# Altium schematic symbol library OBC_boardV1.SchLib: 97 symbols (part 1 of 2)
Pins are listed as number, name and electrical type; pins without a type are passive.

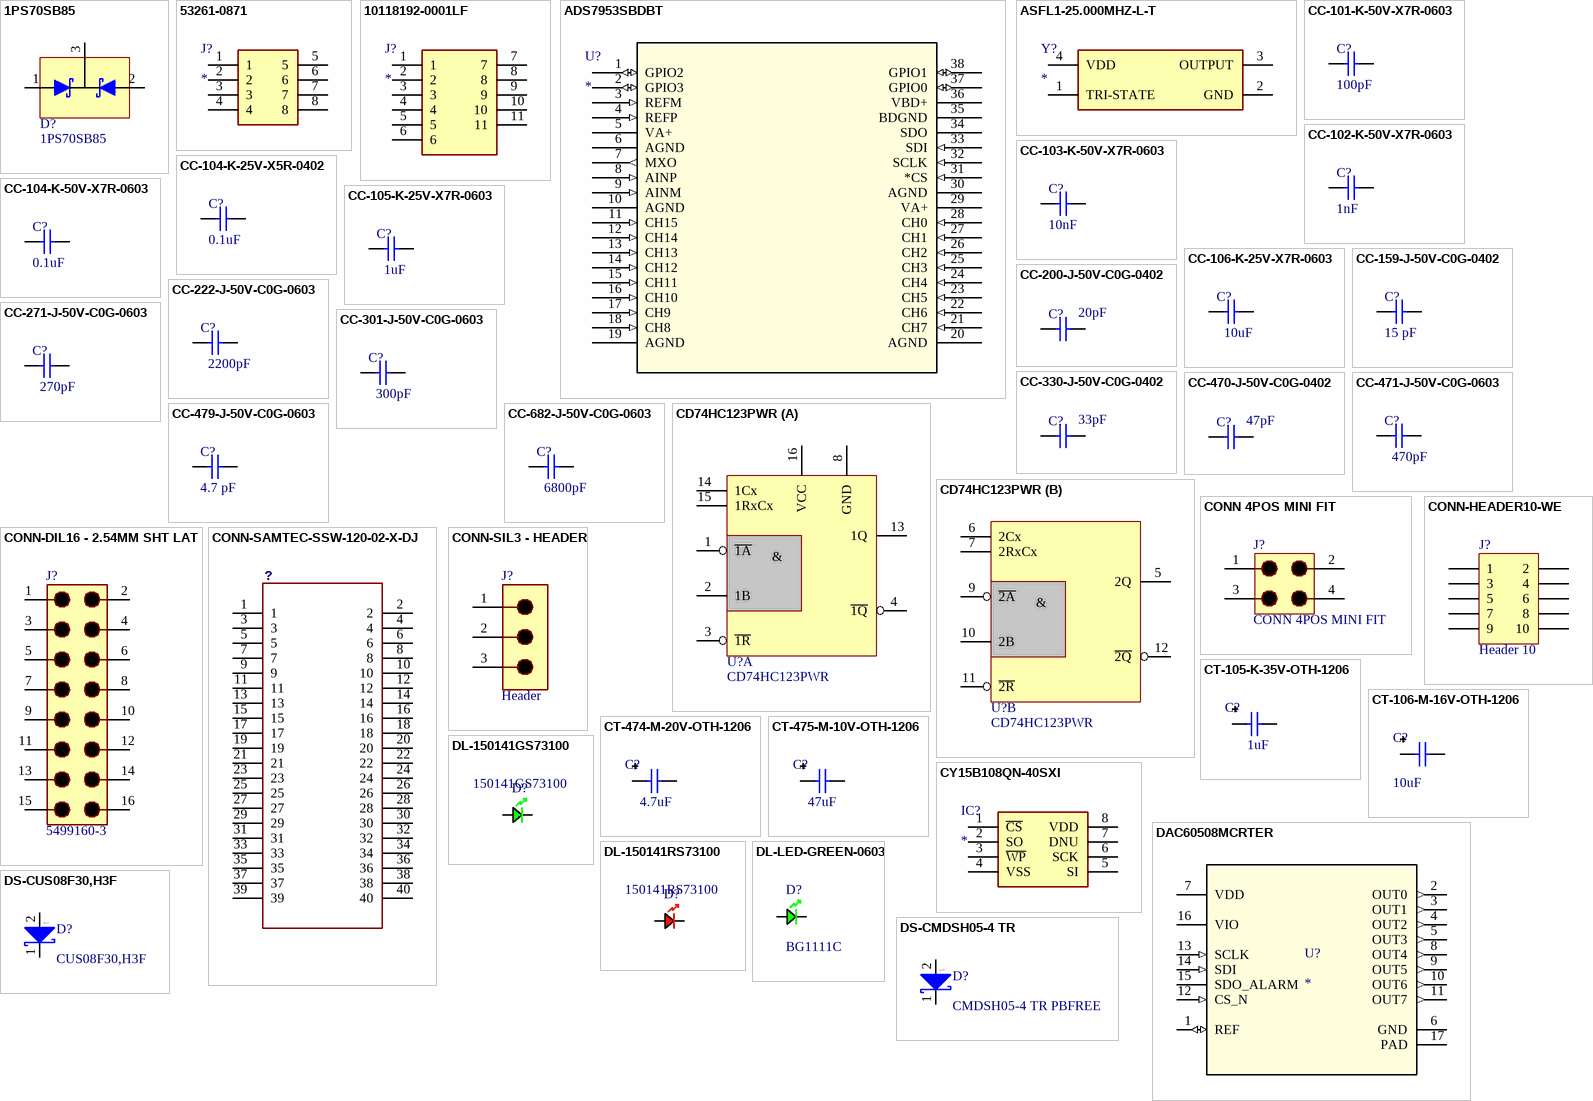
[diagram p0: symbols 1PS70SB85 to DS-CUS08F30,H3F]

## 1PS70SB85
designator D?
DIODE ARRAY SCHOTTKY 15V SOT323; Supplier 1: Digi-Key; Supplier 2: Mouser; Supplier Part Number 1: 1727-5441-1-ND; Supplier Part Number 2: 771-1PS70SB85115
footprint 1PS70SB85, SOT-23 (DIODE ARRAY SCHOTTKY 15V SOT323)
pins: 1 A, 2 A, 3 C

## 53261-0871
designator J?
Connector; Manufacturer_Name: Molex; Manufacturer_Part_Number: 53261-0871; Description: Molex PICOBLADE Series; Datasheet Link: https://componentsearchengine.com//53261-0871.pdf; Mouser2 Part Number: 538-53261-0871; Mouser2 Price/Stock: https://www.mouser.com/Search/Refine.aspx?Keyword=538-53261-0871
footprint 53261-0871
pins: 1, 2, 3, 4, 5, 6, 7, 8

## 10118192-0001LF
designator J?
Connector; Manufacturer_Name: Amphenol; Manufacturer_Part_Number: 10118192-0001LF; Datasheet Link: https://www.mouser.tw/datasheet/2/18/10118192-1361887.pdf; Height: 2.8mm; Mouser Part Number: 649-10118192-0001LF; Mouser Price/Stock: https://www.mouser.co.uk/ProductDetail/Amphenol-FCI/10118192-0001LF?qs=Ywefl8B65e5bHFoQtIudZg%3D%3D; Arrow Part Number: 10118192-0001LF; Arrow Price/Stock: https://www.arrow.com/en/products/10118192-0001lf/amphenol-fci?region=nac
footprint 101181920001LF
pins: 1, 2, 3, 4, 5, 6, 7, 8, 9, 10, 11

## ADS7953SBDBT
designator U?
12 bit, 1 MSPS, 16 ch, single ended, micro power, sr i/f, SAR ADC; Manufacturer: Texas Instruments; GENERIC_PART_NUMBER: ADS7953; INDUSTRY_STD_PKG_TYPE: TSSOP; FAMILY_NAME: PRECISION ADC (<=10MSPS); PIN_COUNT: 38; PACKAGE_DESIGNATOR: DBT; Datasheet_URL: http://www.ti.com/lit/gpn/ADS7953; Copyright: Copyright (C) 2021 Accelerated Designs. All rights reserved; RefDes: RefDes; Type: DEV
footprint DBT38
pins: 1 GPIO2 (io), 2 GPIO3 (io), 3 REFM (in), 4 REFP (in), 5 VA+ (power), 6 AGND (power), 7 MXO (out), 8 AINP (in), 9 AINM (in), 10 AGND (power), 11 CH15 (in), 12 CH14 (in), 13 CH13 (in), 14 CH12 (in), 15 CH11 (in), 16 CH10 (in), 17 CH9 (in), 18 CH8 (in), 19 AGND (power), 20 AGND (power), 21 CH7 (in), 22 CH6 (in), 23 CH5 (in), 24 CH4 (in), 25 CH3 (in), 26 CH2 (in), 27 CH1 (in), 28 CH0 (in), 29 VA+ (power), 30 AGND (power), 31 *CS (in), 32 SCLK (in), 33 SDI (in), 34 SDO (hiz), 35 BDGND (power), 36 VBD+ (power), 37 GPIO0 (io), 38 GPIO1 (io)

## ASFL1-25.000MHZ-L-T
designator Y?
Crystal or Oscillator; Manufacturer_Name: ABRACON; Manufacturer_Part_Number: ASFL1-25.000MHZ-L-T; Datasheet Link: https://componentsearchengine.com/Datasheets/1/ASFL1-25.000MHZ-L-T.pdf; Height: 1.3mm; Mouser Part Number: 815-ASFL1-25-L-T; Mouser Price/Stock: https://www.mouser.co.uk/ProductDetail/ABRACON/ASFL1-25000MHZ-L-T?qs=jv7ULIbIBgOiRkeuuil%252BKg%3D%3D; Arrow Part Number: ASFL1-25.000MHZ-L-T; Arrow Price/Stock: https://www.arrow.com/en/products/asfl1-25.000mhz-l-t/abracon?region=nac
footprint ASFL125000MHZLT
pins: 1 TRI-STATE, 2 GND, 3 OUTPUT, 4 VDD

## CC-101-K-50V-X7R-0603
designator C?, comment 100pF
CAP CER 100PF 50V X7R 0603; Manufacturer: KEMET; Manufacturer Part #: C0603C101M5RAC7867; Checked By: *; Created By: *; Distributor: Digikey; Distributor Part #: 399-14478-1-ND; History: *; Notes: *; Part Description: CAP CER 100PF 50V X7R 0603; Population: *; ROHS: Yes; SignalCraft Part #: *; Alternate Distributor Part #: *; Alternate Manufacturer: *; Alternate Manufacturer Part #: *; Value: 100pF
footprint 0603
pins: 1, 2

## CC-102-K-50V-X7R-0603
designator C?, comment value 1nF  (hidden comment: 10nF)
CAP CER 1000PF 50V X7R 0603; Manufacturer: KEMET; Manufacturer Part #: C0603C102J5RACTU; Checked By: *; ComponentLink1Description: Datasheet; ComponentLink1URL: https://www.yageo.com/upload/media/product/productsearch/datasheet/mlcc/UPY-GPHC_X7R_6.3V-to-50V_18.pdf; ComponentLink2Description: Manufacture Website; ComponentLink2URL: https://www.yageo.com/en/Home; Created By: *; Distributor: Digikey; Distributor Part #: 399-1083-1-ND; History: *; Notes: *; Part Description: CAP CER 1000PF 50V X7R 0603; Population: *; ROHS: Yes; SignalCraft Part #: *; Alternate Distributor Part #: *; Alternate Manufacturer: *; Alternate Manufacturer Part #: *
footprint 0603
pins: 1, 2

## CC-103-K-50V-X7R-0603
designator C?, comment 10nF
CAP CER 10000PF 50V X7R 0603; Manufacturer: KEMET; Manufacturer Part #: C0603C103K5RAC3190; Checked By: *; Created By: *; Distributor: Digikey; Distributor Part #: 399-C0603C103K5RAC3190CT-ND; History: *; Notes: *; Part Description: CAP CER 10000PF 50V X7R 0603; Population: *; ROHS: Yes; SignalCraft Part #: *; Alternate Distributor Part #: *; Alternate Manufacturer: *; Alternate Manufacturer Part #: *; Value: 10nF
footprint 0603
pins: 1, 2

## CC-104-K-25V-X5R-0402
designator C?, comment 0.1uF
CAP CER 0.1UF 25V X5R 0402; Manufacturer: Taiyo Yuden; Manufacturer Part #: TMK105BJ104KV-F; SignalCraft Part #: CC-104-K-25V-X5R-0402; Checked By: *; ComponentLink1description: Datasheet; ComponentLink1URL: https://ds.yuden.co.jp/TYCOMPAS/ut/detail?pn=TMK105BJ104KV-F%20%20&u=M; ComponentLink2description: Manufacturer Website; Created By: *; Distributor: Digikey; Distributor Part #: 587-1456-1-ND; History: *; Notes: *; Part Description: CAP CER 0.1UF 25V X5R 0402; Population: *; ROHS: Yes; ComponentLink2URL: https://www.yuden.co.jp/or/; Value: 0.1uF
footprint 0402 (Chip Resistor, 2-Leads, Body 1,00x0,50mm, IPC Medium Density)
pins: 1, 2

## CC-104-K-50V-X7R-0603
designator C?, comment 0.1uF
CAP CER 0.1UF 50V X7R 0603; Manufacturer: Yageo; Manufacturer Part #: CC0603KRX7R9BB104; SignalCraft Part #: CC-104-K-50V-X7R-0603; Checked By: *; ComponentLink1Description: Datasheet; ComponentLink1URL: https://www.yageo.com/upload/media/product/productsearch/datasheet/mlcc/UPY-GPHC_X7R_6.3V-to-50V_18.pdf; ComponentLink2Description: Manufacture Website; ComponentLink2URL: https://www.yageo.com/en/Home; Created By: *; Distributor: Digikey; Distributor Part #: 311-1344-1-ND; History: *; Notes: *; Part Description: CAP CER 0.1UF 50V X7R 0603; Population: *; ROHS: Yes; Alternate Distributor Part #: *; Alternate Manufacturer: *; Alternate Manufacturer Part #: *; Value: 0.1uF
footprint 0603
pins: 1, 2

## CC-105-K-25V-X7R-0603
designator C?, comment 1uF
CAP CER 1UF 25V X7R 0603; Manufacturer: Yageo; Manufacturer Part #: CC0603KRX7R8BB105; SignalCraft Part #: CC-105-K-25V-X7R-0603; Checked By: *; ComponentLink1Description: Datasheet; ComponentLink1URL: https://www.yageo.com/upload/media/product/productsearch/datasheet/mlcc/UPY-GPHC_X7R_6.3V-to-50V_18.pdf; ComponentLink2Description: Manufacture Website; ComponentLink2URL: https://www.yageo.com/en/Home; Created By: *; Distributor: Digikey; Distributor Part #: 311-1802-1-ND; History: *; Notes: *; Part Description: CAP CER 1UF 25V X7R 0603; Population: *; ROHS: Yes; Alternate Distributor Part #: *; Alternate Manufacturer: *; Alternate Manufacturer Part #: *; Value: 1uF
footprint 0603
pins: 1, 2

## CC-106-K-25V-X7R-0603
designator C?, comment value 10uF  (hidden comment: 1uF)
CAP CER 10UF 25V X7R 0603; Manufacturer: Murata Electronics; Manufacturer Part #: ZRB18AR61E106ME01L; Part Description: CAP CER 10UF 25V X5R 0603; SignalCraft Part #: CC-105-K-25V-X7R-0603; Checked By: *; Created By: *; Distributor: Digikey; Distributor Part #: 490-10991-1-ND; History: *; Notes: *; Population: *; ROHS: Yes; Alternate Distributor Part #: *; Alternate Manufacturer: *; Alternate Manufacturer Part #: *
footprint 0603
pins: 1, 2

## CC-159-J-50V-C0G-0402
designator C?, comment 15 pF
15 pF ±1% 50V Ceramic Capacitor C0G, NP0 0402 (1005 Metric); Manufacturer: YAGEO; Manufacturer Part #: CC0402FRNPO9BN150; Checked By: *; ComponentLink1Description: Datasheet; ComponentLink1URL: *; ComponentLink2Description: Manufacture Website; ComponentLink2URL: *; Created By: *; Distributor: Digikey; Distributor Part #: 311-1642-1-ND; History: *; Notes: *; Part Description: 15 pF ±1% 50V Ceramic Capacitor C0G, NP0 0402 (1005 Metric); Population: *; ROHS: *; SignalCraft Part #: *; Alternate Distributor Part #: *; Alternate Manufacturer: *; Alternate Manufacturer Part #: *; Value: 15 pF
footprint 0603
pins: 1, 2

## CC-200-J-50V-C0G-0402
designator C?, comment 20pF
CAP CER 20PF 50V C0G/NP0 0402; Manufacturer: KEMET; Manufacturer Part #: C0402C200J5GACTU; SignalCraft Part #: CC-200-J-50V-C0G-0402; Checked By: *; ComponentLink1description: Datasheet; ComponentLink1URL: https://content.kemet.com/datasheets/KEM_C1003_C0G_SMD.pdf; ComponentLink2description: Manufacturer Website; Created By: *; Distributor: Digikey; Distributor Part #: 399-7773-1-ND; History: *; Notes: *; Part Description: CAP CER 20PF 50V C0G/NP0 0402; Population: *; ROHS: Yes; ComponentLink2URL: https://www.kemet.com/en/us.html; Value: 20pF
footprint 0402 (Chip Resistor, 2-Leads, Body 1,00x0,50mm, IPC Medium Density)
pins: 1, 2

## CC-222-J-50V-C0G-0603
designator C?, comment 2200pF
CAP CER 2200PF 50V C0G/NPO 0603; Manufacturer: KEMET; Manufacturer Part #: C0603C222J5RACAUTO; Part Description: CAP CER 2200PF 50V X7R 0603; Checked By: *; ComponentLink1Description: Datasheet; ComponentLink1URL: *; ComponentLink2Description: Manufacture Website; ComponentLink2URL: *; Created By: *; Distributor: Digikey; Distributor Part #: 399-C0603C222J5RACAUTOCT-ND; History: *; Notes: *; Population: *; ROHS: *; SignalCraft Part #: *; Alternate Distributor Part #: *; Alternate Manufacturer: *; Alternate Manufacturer Part #: *; Value: 2200pF
footprint 0603
pins: 1, 2

## CC-271-J-50V-C0G-0603
designator C?, comment 270pF
CAP CER 270PF 50V C0G/NPO 0603; Manufacturer: KEMET; Manufacturer Part #: C0603C271K5RACTU; Part Description: CAP CER 270PF 50V X7R 0603; Checked By: *; Created By: *; Distributor: Digikey; Distributor Part #: 399-1072-1-ND; History: *; Notes: *; Population: *; ROHS: Yes; SignalCraft Part #: *; Alternate Distributor Part #: *; Alternate Manufacturer: *; Alternate Manufacturer Part #: *; Value: 270pF
footprint 0603
pins: 1, 2

## CC-301-J-50V-C0G-0603
designator C?, comment 300pF
CAP CER 300PF 50V C0G/NPO 0603; Manufacturer: KEMET; Manufacturer Part #: C0603C301J5GACTU; Part Description: CAP CER 300PF 50V C0G/NP0 0603; Checked By: *; Created By: *; Distributor: Digikey; Distributor Part #: 399-9058-1-ND; History: *; Notes: *; Population: *; ROHS: Yes; SignalCraft Part #: *; Alternate Distributor Part #: *; Alternate Manufacturer: *; Alternate Manufacturer Part #: *; Value: 300pF
footprint 0603
pins: 1, 2

## CC-330-J-50V-C0G-0402
designator C?, comment 33pF
CAP CER 33PF 50V C0G/NP0 0402; Manufacturer: KEMET; Manufacturer Part #: C0402C330J5GACTU; Part Description: 33 pF ±5% 50V Ceramic Capacitor C0G, NP0 0402 (1005 Metric); Checked By: *; ComponentLink1description: Datasheet; ComponentLink1URL: https://content.kemet.com/datasheets/KEM_C1003_C0G_SMD.pdf; ComponentLink2description: Manufacturer Website; Created By: *; Distributor: Digikey; Distributor Part #: 399-1017-1-ND; History: *; Notes: *; Population: *; ROHS: Yes; ComponentLink2URL: https://www.kemet.com/en/us.html; Value: 33pF
footprint 0402 (Chip Resistor, 2-Leads, Body 1,00x0,50mm, IPC Medium Density)
pins: 1, 2

## CC-470-J-50V-C0G-0402
designator C?, comment 47pF
CAP CER 47PF 50V C0G/NP0 0402; Manufacturer: Murata Electronics; Manufacturer Part #: GCM1555C1H470JA16J; SignalCraft Part #: CC-470-J-50V-C0G-0402; Checked By: *; ComponentLink1description: Datasheet; ComponentLink1URL: https://search.murata.co.jp/Ceramy/image/img/A01X/G101/ENG/GCM1555C1H470JA16-01.pdf; ComponentLink2description: Manufacturer Website; Created By: *; Distributor: Digikey; Distributor Part #: 490-17752-1-ND; History: *; Notes: *; Part Description: CAP CER 47PF 50V C0G/NP0 0402; Population: *; ROHS: Yes; ComponentLink2URL: https://www.murata.com/en-us; Value: 47pF
footprint 0402 (Chip Resistor, 2-Leads, Body 1,00x0,50mm, IPC Medium Density)
pins: 1, 2

## CC-471-J-50V-C0G-0603
designator C?, comment 470pF
CAP CER 470PF 50V C0G/NPO 0603; Manufacturer: Yageo; Manufacturer Part #: CC0603JRNPO9BN471; SignalCraft Part #: CC-471-J-50V-C0G-0603; Checked By: *; ComponentLink1Description: Datasheet; ComponentLink1URL: https://www.yageo.com/upload/media/product/productsearch/datasheet/mlcc/UPY-GPHC_X7R_6.3V-to-50V_18.pdf; ComponentLink2Description: Manufacture Website; ComponentLink2URL: https://www.yageo.com/en/Home; Created By: *; Distributor: Digikey; Distributor Part #: 311-1520-1-ND; History: *; Notes: *; Part Description: CAP CER 470PF 50V C0G/NPO 0603; Population: *; ROHS: Yes; Alternate Distributor Part #: *; Alternate Manufacturer: *; Alternate Manufacturer Part #: *; Value: 470pF
footprint 0603
pins: 1, 2

## CC-479-J-50V-C0G-0603
designator C?, comment 4.7 pF
4.7 pF ±0.25pF 50V Ceramic Capacitor C0G, NP0 0603 (1608 Metric); Manufacturer: KEMET; Manufacturer Part #: C0603C479C5GACTU; Checked By: *; ComponentLink1Description: Datasheet; ComponentLink1URL: *; ComponentLink2Description: Manufacture Website; ComponentLink2URL: *; Created By: *; Distributor: Digikey; Distributor Part #: 399-7937-1-ND; History: *; Notes: *; Part Description: 4.7 pF ±0.25pF 50V Ceramic Capacitor C0G, NP0 0603 (1608 Metric); Population: *; ROHS: *; SignalCraft Part #: *; Alternate Distributor Part #: *; Alternate Manufacturer: *; Alternate Manufacturer Part #: *; Value: 4.7 pF
footprint 0603
pins: 1, 2

## CC-682-J-50V-C0G-0603
designator C?, comment 6800pF
CAP CER 6800PF 50V C0G/NPO 0603; Manufacturer: KEMET; Manufacturer Part #: C0603C682K5RAC7411; Part Description: CAP CER 6800PF 50V X7R 0603; Checked By: *; Created By: *; Distributor: Digikey; Distributor Part #: 399-C0603C682K5RAC7411CT-ND; History: *; Notes: *; Population: *; ROHS: *; SignalCraft Part #: *; Alternate Distributor Part #: *; Alternate Manufacturer: *; Alternate Manufacturer Part #: *; Value: 6800pF
footprint 0603
pins: 1, 2

## CD74HC123PWR
designator U?
IC DUAL RETRIG MULTIVIB 16-TSSOP; Supplier 1: Mouser; Supplier 2: Farnell; Supplier 3: Digi-Key; Supplier Part Number 1: 595-CD74HC123PWR; Supplier Part Number 2: 1287430; Supplier Part Number 3: 296-12780-1-ND
footprint CD74HC123PWR (IC DUAL RETRIG MULTIVIB 16-TSSOP)
part A pins: 1 ~{1A}, 2 1B, 3 ~{1R}, 4 ~{1Q}, 8 GND, 13 1Q, 14 1Cx, 15 1RxCx, 16 VCC
part B pins: 5 2Q, 6 2Cx, 7 2RxCx, 9 ~{2A}, 10 2B, 11 ~{2R}, 12 ~{2Q}
part A text: &
part B text: &

## CONN 4POS MINI FIT
designator J?
CONN HEADER 4POS 4.2MM VERT TIN; Supplier 1: Digi-Key; Supplier Part Number 1: WM3801-ND
footprint CONN 4POS MINI FIT
pins: 1, 2, 3, 4

## CONN-DIL16 - 2.54MM SHT LAT
designator J?, comment 5499160-3
CONN HEADER VERT 16POS .100 GOLD  SHT LAT; Supplier 1: Digi-Key; Supplier Part Number 1: AHE16B-ND
footprint CONN-DIL16 - 2.54MM SHT LAT
pins: 1, 2, 3, 4, 5, 6, 7, 8, 9, 10, 11, 12, 13, 14, 15, 16

## CONN-HEADER10-WE
designator J?, comment Header 10
WR-BHD 2.54mm Male Box Header; Manufacturer: Wurth Elektronik; partNo: 61201021621; ComponentLink1 Description: Manufacturer; ComponentLink2 Description: Datasheet; NoPins: 10; Created Date: March 2016; ComponentLink1URL: http://www.we-online.com; ComponentLink2URL: http://katalog.we-online.de/em/datasheet/6120xx21621.pdf; Created by: Baojun Chen
footprint CONN-HEADER 10-61201021621 (Connecteur fil-à-carte, Vertical, 2.54 mm, 10 Contact(s),WE)
pins: 1, 2, 3, 4, 5, 6, 7, 8, 9, 10

## CONN-SAMTEC-SSW-120-02-X-DJ
designator ?
40 Pin connector
footprint SAMTEC-SSW-120-02-X-D
pins: 1, 2, 3, 4, 5, 6, 7, 8, 9, 10, 11, 12, 13, 14, 15, 16, 17, 18, 19, 20, 21, 22, 23, 24, 25, 26, 27, 28, 29, 30, 31, 32, 33, 34, 35, 36, 37, 38, 39, 40

## CONN-SIL3 - HEADER
designator J?, comment Header
WIRE TO BOARD CONNECTOR, HEADER, 3 POSITION, 2.54MM; Supplier 1: Mouser; Supplier Part Number 1: 571-3-641213-3
footprint CONN-SIL3 - header
pins: 1, 2, 3

## CT-105-K-35V-OTH-1206
designator C?, comment 1uF
CAP TANT 1UF 10% 35V 1206; Alternate Manufacturer: KEMET; Alternate Manufacturer Part #: T494A105K035AT; Manufacturer Part #: T491A105K035AT; SignalCraft Part #: CT-105-K-35V-OTH-1206; Alternate Distributor Part #: 399-10219-1-ND; Checked By: *; ComponentLink1Description: Datasheet; ComponentLink1URL: https://content.kemet.com/datasheets/KEM_T2005_T491.pdf; ComponentLink2Description: Manufacturer Website; ComponentLink2URL: https://www.kemet.com/en/us.html; Created By: *; Distributor: Digikey; Distributor Part #: 399-8265-1-ND; History: *; Manufacturer: KEMET; Notes: *; Part Description: CAP TANT 1UF 10% 35V 1206; Population: *; ROHS: *; Value: 1uF
footprint CAP TANT 1206 (A)
pins: 1, 2

## CT-106-M-16V-OTH-1206
designator C?, comment 10uF
CAP TANT 10UF 16V 20% 1206; Manufacturer: AVX Corporation; Manufacturer Part #: TCJA106M016R0200; Part Description: CAP TANT POLY 10UF 16V 1206; SignalCraft Part #: CT-106-M-16V-OTH-1206; Alternate Distributor Part #: *; Alternate Manufacturer: *; Alternate Manufacturer Part #: *; Checked By: *; ComponentLink1Description: Datasheet; ComponentLink1URL: https://datasheets.avx.com/TCJ.pdf; ComponentLink2Description: Manufacturer Website; ComponentLink2URL: https://www.avx.com/; Created By: *; Distributor: Digikey; Distributor Part #: 478-3451-1-ND; History: *; Notes: *; Population: *; ROHS: *; Value: 10uF
footprint CAP TANT 1206 (A) TCJ (Cap Tant 2-Leads, EIA 1206, Metric 3216, Body 3.2x1.6mm)
pins: 1, 2

## CT-474-M-20V-OTH-1206
designator C?, comment 4.7uF
4.7 µF Molded Tantalum Capacitors 20 V 1206 (3216 Metric) 4Ohm; Manufacturer: AVX Corporation; Manufacturer Part #: TAJA475K020RNJ; Alternate Distributor Part #: *; Alternate Manufacturer: *; Alternate Manufacturer Part #: *; Checked By: *; ComponentLink1Description: Datasheet; ComponentLink1URL: *; ComponentLink2Description: Manufacturer Website; ComponentLink2URL: *; Created By: *; Distributor: Digikey; Distributor Part #: 478-1668-1-ND; History: *; Notes: *; Part Description: 4.7 µF Molded Tantalum Capacitors 20 V 1206 (3216 Metric) 4Ohm; Population: *; ROHS: *; SignalCraft Part #: *; Value: 4.7uF
footprint CAP TANT 1206 (A) TCJ (Cap Tant 2-Leads, EIA 1206, Metric 3216, Body 3.2x1.6mm)
pins: 1, 2

## CT-475-M-10V-OTH-1206
designator C?, comment 47uF
47 µF Molded Tantalum Capacitors 10 V 1206 (3216 Metric) 1.5Ohm; Manufacturer: AVX Corporation; Manufacturer Part #: TLNK476M010R1500; Alternate Distributor Part #: *; Alternate Manufacturer: *; Alternate Manufacturer Part #: *; Checked By: *; ComponentLink1Description: Datasheet; ComponentLink1URL: *; ComponentLink2Description: Manufacturer Website; ComponentLink2URL: *; Created By: *; Distributor: Digikey; Distributor Part #: 478-5632-1-ND; History: *; Notes: *; Part Description: 47 µF Molded Tantalum Capacitors 10 V 1206 (3216 Metric) 1.5Ohm; Population: *; ROHS: *; SignalCraft Part #: *; Value: 47uF
footprint CAP TANT 1206 (A) TCJ (Cap Tant 2-Leads, EIA 1206, Metric 3216, Body 3.2x1.6mm)
pins: 1, 2

## CY15B108QN-40SXI
designator IC?
Integrated Circuit; Manufacturer_Name: Cypress Semiconductor; Manufacturer_Part_Number: CY15B108QN-40SXI; Datasheet Link: https://www.cypress.com/file/444186/download; Height: 2.03mm; Mouser Part Number: 727-CY15B108QN-40SXI; Mouser Price/Stock: https://www.mouser.co.uk/ProductDetail/Cypress-Semiconductor/CY15B108QN-40SXI?qs=P1JMDcb91o4DSS%2FkAQM5uA%3D%3D; Arrow Part Number: CY15B108QN-40SXI; Arrow Price/Stock: https://www.arrow.com/en/products/cy15b108qn-40sxi/cypress-semiconductor
footprint SOIC127P800X203-8N
pins: 1 ~{CS}, 2 SO, 3 ~{WP}, 4 VSS, 5 SI, 6 SCK, 7 DNU, 8 VDD

## DAC60508MCRTER
designator U?
No Description Available; PartNumber: DAC60508MRTER; Manufacturer: Texas Instruments; RefDes: RefDes; Type: DEV; Value: Value; Copyright: Copyright (C) 2021 Accelerated Designs. All rights reserved
footprint RTE0016D
pins: 1 REF (io), 2 OUT0 (out), 3 OUT1 (out), 4 OUT2 (out), 5 OUT3 (out), 6 GND (power), 7 VDD (power), 8 OUT4 (out), 9 OUT5 (out), 10 OUT6 (out), 11 OUT7 (out), 12 CS_N (in), 13 SCLK (in), 14 SDI (in), 15 SDO_ALARM (hiz), 16 VIO (power), 17 PAD (power)

## DL-150141GS73100
designator D?, comment Manufacturer Part #: 150141GS73100  (hidden comment: .designator)
LED GREEN CLEAR 3528 SMD; SignalCraft Part #: DL-150141GS73100; Manufacturer: Würth Elektronik; ComponentLink1URL: https://www.we-online.de/katalog/datasheet/150141GS73100.pdf; ComponentLink2URL: https://www.we-online.com/web/en/wuerth_elektronik/start.php; Part Description: LED GREEN CLEAR 3528 SMD; Distributor: Digikey; Distributor Part #: 732-4997-1-ND; ComponentLink1Description: Datasheet - pdf; ComponentLink2Description: Manufacturer Website
footprint LED-150141GS73100
footprint LED-150141GS73100
pins: 1, 2

## DL-150141RS73100
designator D?, comment Manufacturer Part #: 150141RS73100  (hidden comment: .designator)
LED RED CLEAR 3528 SMD; SignalCraft Part #: DL-150141RS73100; Manufacturer: Würth Elektronik; ComponentLink1URL: https://www.we-online.de/katalog/datasheet/150141RS73100.pdf; ComponentLink2URL: https://www.we-online.com/web/en/wuerth_elektronik/start.php; Part Description: LED RED CLEAR 3528 SMD; Distributor: Digikey; Distributor Part #: 732-5000-1-ND; ComponentLink1Description: Datasheet - pdf; ComponentLink2Description: Manufacturer Website
footprint LED-150141GS73100
footprint LED-150141GS73100
pins: 1, 2

## DL-LED-GREEN-0603
designator D?, comment Notes: BG1111C  (hidden comment: .designator)
LED GREEN SMT 0603 2.1V; Part Description: DIODE LED GREEN 0603 SMD; Manufacturer: STANLEY ELECTRIC CO LTD; Manufacturer Part #: BG1111C-TR; ComponentLink1URL: http://www.stanley-components.com/en/search/pdf_download.cfm?pdf_file=1111c_e.pdf; ComponentLink2URL: http://www.stanley-components.com; Distributor: Digikey; Distributor Part #: 404-1005-1-ND; ComponentLink1Description: Datasheet - pdf; ComponentLink2Description: Manufacturer Website
footprint 0603 LED
pins: A, K

## DS-CMDSH05-4 TR
designator D?, comment Manufacturer Part #: CMDSH05-4 TR PBFREE  (hidden comment: .designator)
Schottky Diode Symbol; SignalCraft Part #: DS-CMDSH05-4 TR; Part Description: DIODE SCHOTTKY 40V 500MA SOD323; Manufacturer: Central Semiconductor; ComponentLink1URL: https://my.centralsemi.com/get_document.php?cmp=1&mergetype=pd&mergepath=pd&pdf_id=CMDSH05-4.PDF; ComponentLink2URL: http://centralsemi.com/; Distributor: Digi-Key; Distributor Part #: 1514-CMDSH05-4TRPBFREECT-ND; ROHS: Yes; ComponentLink1Description: Datasheet - pdf; ComponentLink2Description: Manufacturer Website
footprint SOD-323-Central-Semi
footprint SOD-323-Central-Semi (Schottky 30V Schottky)
pins: 1, 2
1 alternate drawing of the same symbol
text: ALT1

## DS-CUS08F30,H3F
designator D?, comment Manufacturer Part #: CUS08F30,H3F  (hidden comment: .designator)
DIODE SCHOTTKY 30V 800MA USC; SignalCraft Part #: DS-CUS08F30,H3F; Manufacturer: Toshiba Semiconductor and Storage; Value: CUS08F30,H3F; ComponentLink2URL: https://toshiba.semicon-storage.com/us/top.html; Part Description: DIODE SCHOTTKY 30V 800MA USC; Distributor: Digi-Key; Distributor Part #: CUS08F30H3FCT-ND; ROHS: Yes; ComponentLink1Description: Datasheet - pdf; ComponentLink2Description: Manufacturer Website
footprint SOD-323-Central-Semi (Schottky 30V Schottky)
pins: 1, 2
1 alternate drawing of the same symbol
text: ALT1

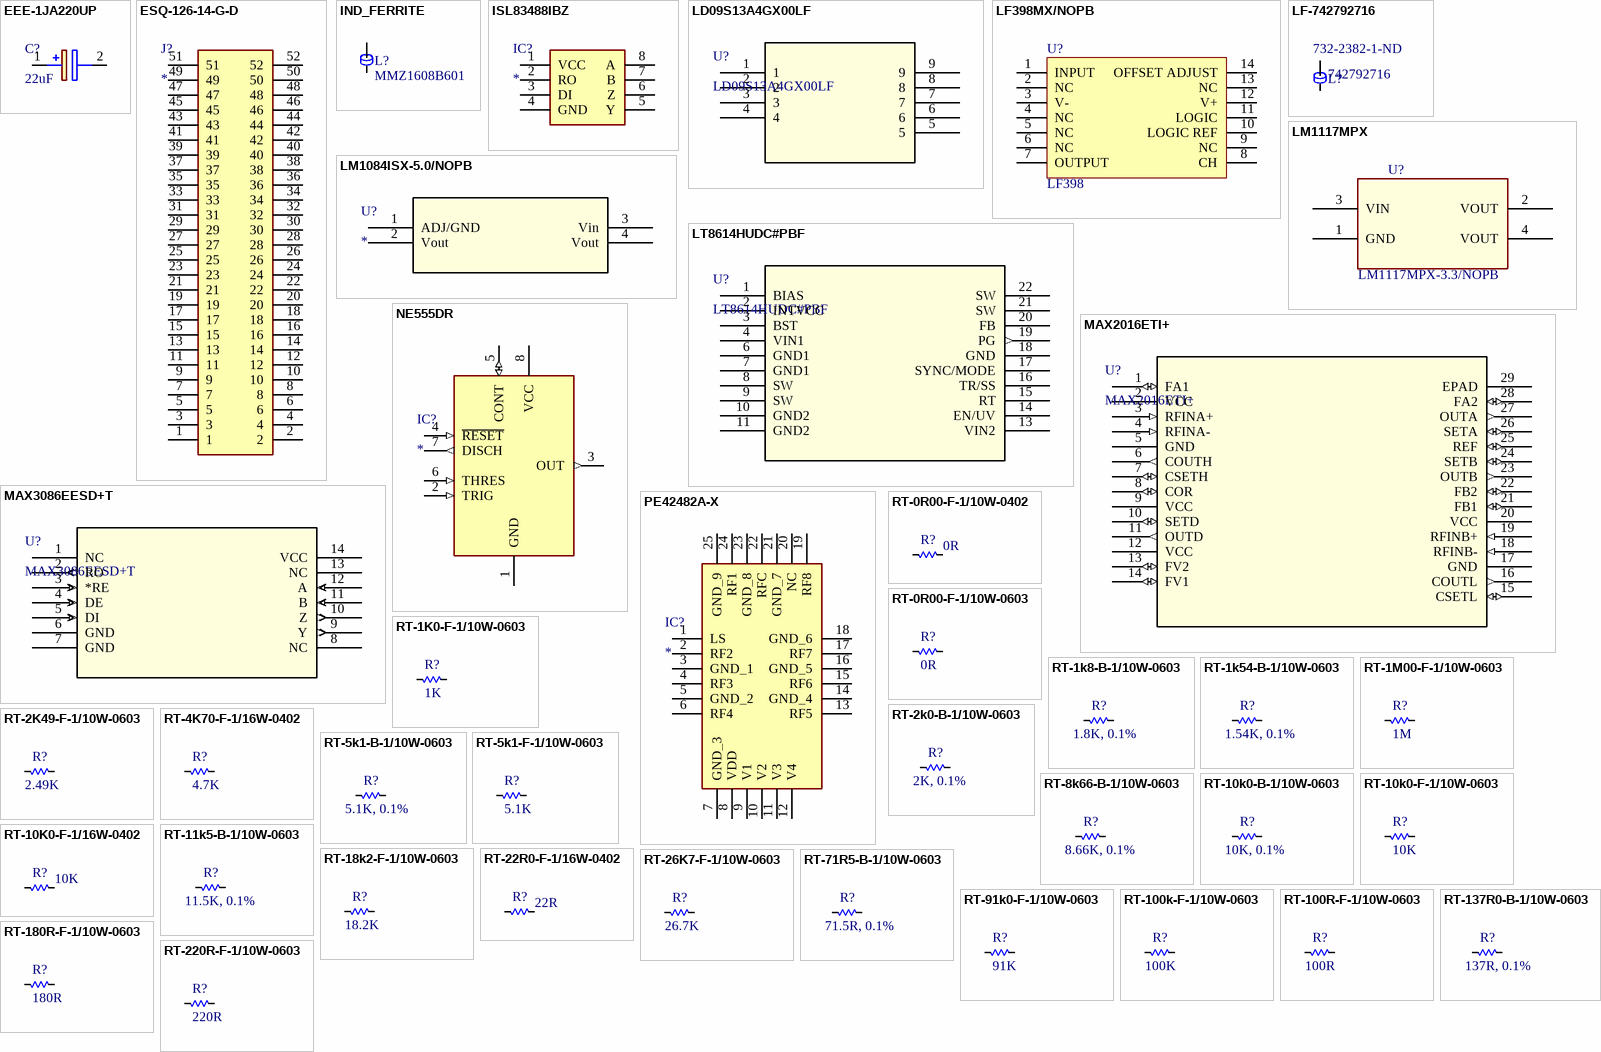
[diagram p1: symbols EEE-1JA220UP to RT-220R-F-1/10W-0603]

## EEE-1JA220UP
designator C?, comment 22uF
CAP ALUM 22UF 20% 63V SMD; Manufacturer_Name: Panasonic; Manufacturer_Part_Number: EEE-1JA220UP; Datasheet Link: https://ms.componentsearchengine.com/Datasheets/2/EEE-1JA220UP.pdf; Height: 6.5mm; Mouser Part Number: 667-EEE-1JA220UP; Mouser Price/Stock: https://www.mouser.co.uk/ProductDetail/Panasonic/EEE-1JA220UP?qs=wEytwf7f49Huz1y4HLAkeQ%3D%3D; Arrow Part Number: EEE-1JA220UP; Arrow Price/Stock: https://www.arrow.com/en/products/eee-1ja220up/panasonic
footprint CAPAE830X650N
pins: 1 +, 2 -

## ESQ-126-14-G-D
designator J?
Connector; Manufacturer_Name: SAMTEC; Manufacturer_Part_Number: ESQ-126-14-G-D; Datasheet Link: http://suddendocs.samtec.com/prints/esq-1xx-xx-x-x-xxx-xx-x-xx-mkt.pdf; Mouser Part Number: 200-ESQ12614GD; Mouser Price/Stock: https://www.mouser.com/Search/Refine.aspx?Keyword=200-ESQ12614GD; Arrow Part Number: ESQ-126-14-G-D; Arrow Price/Stock: https://www.arrow.com/en/products/esq-126-14-g-d/samtec?region=nac
footprint ESQ-126-Y-X-D
pins: 1, 2, 3, 4, 5, 6, 7, 8, 9, 10, 11, 12, 13, 14, 15, 16, 17, 18, 19, 20, 21, 22, 23, 24, 25, 26, 27, 28, 29, 30, 31, 32, 33, 34, 35, 36, 37, 38, 39, 40, 41, 42, 43, 44, 45, 46, 47, 48, 49, 50, 51, 52

## IND_FERRITE
designator L?, comment value MMZ1608B601  (hidden comment: .designator)
Ferrite Bead; SignalCraft Part #: LF-MMZ1608B601CTAH0; Part Description: FLTR FERRITE 500mA 600ohm 100MHz Material-B 0603; Manufacturer: TDK Corporation; History: 2014/12/18, prawlyk, created part ()<\n>2014/12/18, prawlyk, updated part; ComponentLink1URL: http://product.tdk.com/emc/beads/en/documents/beads_commercial_signal_mmz_en.pdf; ComponentLink2URL: http://www.component.tdk.com/; Distributor: Digi-Key; Distributor Part #: 445-2166-6-ND; ROHS: Yes; Created By: prawlyk; ComponentLink1Description: Datasheet - pdf; ComponentLink2Description: Manufacturer Website
footprint 0603
pins: 1, 2

## ISL83488IBZ
designator IC?
Integrated Circuit; Manufacturer_Name: Renesas Electronics; Manufacturer_Part_Number: ISL83488IBZ; Datasheet Link: https://www.renesas.com/en-us/www/doc/datasheet/isl83483-85-88-90-91.pdf; Height: 1.75mm; Mouser Part Number: 968-ISL83488IBZ; Mouser Price/Stock: https://www.mouser.co.uk/ProductDetail/Renesas-Intersil/ISL83488IBZ?qs=dAsayXGOMrtYlQoO5gpudg%3D%3D; Arrow Part Number: ISL83488IBZ; Arrow Price/Stock: https://www.arrow.com/en/products/isl83488ibz/intersil
footprint SOIC127P600X175-8N
pins: 1 VCC, 2 RO, 3 DI, 4 GND, 5 Y, 6 Z, 7 B, 8 A

## LD09S13A4GX00LF
designator U?
No Description Available; Built_By: EMA_Colton; Vendor: Amphenol; SourceLibrary: Add_to_database_2021-03-09; Datasheet: https://www.amphenol-icc.com/media/wysiwyg/files/drawing/10130913.pdf; Copyright: Copyright (C) 2018 Accelerated Designs. All rights reserved; Manufacturer_Part_Number: LD09S13A4GX00LF; RefDes: RefDes; Type: DEV
footprint LD09S13A4GX00LF_AMP
pins: 1, 2, 3, 4, 5, 6, 7, 8, 9

## LF398MX/NOPB
designator U?, comment LF398
IC OPAMP SAMPLE HOLD 14SOIC; Supplier 1: Digi-Key; Supplier 2: Mouser; Supplier 3: Farnell; Supplier Part Number 1: LF398MX/NOPBCT-ND; Supplier Part Number 2: 926-LF398MX/NOPB; Supplier Part Number 3: 2782760
footprint LF398MX (IC OPAMP SAMPLE HOLD 14SOIC)
pins: 1 INPUT, 2 NC, 3 V-, 4 NC, 5 NC, 6 NC, 7 OUTPUT, 8 CH, 9 NC, 10 LOGIC REF, 11 LOGIC, 12 V+, 13 NC, 14 OFFSET ADJUST

## LF-742792716
designator L?, comment Supplier Part Number 1: 732-2382-1-ND  (hidden comment: 742792716)
FERRITE BEAD 60 OHM 0402 1LN; Manufacturer: Würth Elektronik; SignalCraft Part #: LF-742792716; ComponentLink1URL: https://www.we-online.de/katalog/datasheet/742792716.pdf; ComponentLink2URL: https://www.we-online.com/web/en/wuerth_elektronik/start.php; Part Description: FERRITE BEAD 60 OHM 0402 1LN; Distributor: Digi-Key; Distributor Part #: 732-2382-1-ND; ROHS: Yes; ComponentLink1Description: Datasheet - pdf; ComponentLink2Description: Manufacturer Website; Alternate Distributor Part #: *; Alternate Manufacturer: *; Alternate Manufacturer Part #: *; Manufacturer Part #: 742792716; Supplier 1: Digi-Key; Value: 742792716
footprint 0402 (Chip Resistor, 2-Leads, Body 1,00x0,50mm, IPC Medium Density)
pins: 1, 2

## LM1084ISX-5.0/NOPB
designator U?
5V 1.5A LDO; PartNumber: LM1084IS-33; Comp: TypeLDO; Vendor: NationalSemiconductor; base_pn: LM1084; Symbol: NameLM1084IS-33; Library: ReferenceLM1084IS; Type: DEV; Version: 1; Pin: Count3; Copyright: Copyright (C) 2021 Accelerated Designs. All rights reserved; RefDes: RefDes
footprint TS3B
pins: 1 ADJ/GND, 2 Vout, 3 Vin, 4 Vout

## LM1117MPX
designator U?, comment Manufacturer Part #: LM1117MPX-3.3/NOPB  (hidden comment: .designator)
3V3 800mA LDO; SignalCraft Part #: U-LM1117MPX-3.3/NOPB; Part Description: IC REG LDO 800MA 3.3V SOT-223; Manufacturer: National Semiconductor; History: 2008/09/17, PCS, created part; ComponentLink1URL: http://cache.national.com/ds/LM/LM1117.pdf; ComponentLink2URL: www.national.com; Distributor: Digikey; Distributor Part #: LM1117MPX-3.3CT-ND; ROHS: Yes; Created By: prawlyk; ComponentLink1Description: Datasheet - pdf; ComponentLink2Description: Manufacturer Website
footprint SOT-223
pins: 1 GND, 2 VOUT, 3 VIN, 4 VOUT
1 alternate drawing of the same symbol

## LT8614HUDC#PBF
designator U?
5V 4A Buck Regulator; Built_By: EMA_UL_Team; Vendor: Linear Technology; SourceLibrary: LinearTech_EXPORT_2015-11-25; Manufacturer_Part_Number: LT8614HUDC#PBF; Copyright: Copyright (C) 2021 Accelerated Designs. All rights reserved; RefDes: RefDes; Type: DEV
footprint QFN18_3x4_LTI
pins: 1 BIAS, 2 INTVCC, 3 BST, 4 VIN1 (power), 6 GND1, 7 GND1, 8 SW, 9 SW, 10 GND2, 11 GND2, 13 VIN2 (power), 14 EN/UV, 15 RT, 16 TR/SS, 17 SYNC/MODE, 18 GND, 19 PG (out), 20 FB, 21 SW, 22 SW

## MAX2016ETI+
designator U?
Dual log detector; Vendor: Maxim Integrated Products; Built_By: EMA_UL_Team; SourceLibrary: Maxim_2014-05-21; Manufacturer_Part_Number: MAX2016ETI+; Revision: 3; Copyright: Copyright (C) 2021 Accelerated Designs. All rights reserved; RefDes: RefDes; Type: DEV
footprint 21-0140L_T2855-3_MXM
pins: 1 FA1 (io), 2 VCC (power), 3 RFINA+ (in), 4 RFINA- (in), 5 GND (power), 6 COUTH (out), 7 CSETH (io), 8 COR (io), 9 VCC (power), 10 SETD (io), 11 OUTD (out), 12 VCC (power), 13 FV2 (io), 14 FV1 (io), 15 CSETL (io), 16 COUTL (out), 17 GND (power), 18 RFINB- (in), 19 RFINB+ (in), 20 VCC (power), 21 FB1 (io), 22 FB2 (io), 23 OUTB (out), 24 SETB (io), 25 REF (io), 26 SETA (io), 27 OUTA (out), 28 FA2 (io), 29 EPAD

## MAX3086EESD+T
designator U?
No Description Available; Vendor: Maxim Integrated Products; Built_By: EMA_UL_Team; SourceLibrary: Maxim_2014-06-20; Manufacturer_Part_Number: max3086eesd+T; Copyright: Copyright (C) 2021 Accelerated Designs. All rights reserved; RefDes: RefDes; Type: DEV
footprint 21-0041B_14_MXM
pins: 1 NC, 2 RO (out), 3 *RE (in), 4 DE (in), 5 DI (in), 6 GND (power), 7 GND (power), 8 NC, 9 Y (out), 10 Z (out), 11 B (in), 12 A (in), 13 NC, 14 VCC (power)

## NE555DR
designator IC?
Integrated Circuit; Manufacturer_Name: Texas Instruments; Manufacturer_Part_Number: NE555DR; Datasheet Link: http://www.ti.com/lit/ds/symlink/ne555.pdf; Height: 1.75mm; Mouser Part Number: 595-NE555DR; Mouser Price/Stock: https://www.mouser.com/Search/Refine.aspx?Keyword=595-NE555DR; RS Part Number: 1218414; RS Price/Stock: http://uk.rs-online.com/web/p/products/1218414
footprint SOIC127P600X175-8N
pins: 1 GND (power), 2 TRIG (in), 3 OUT (out), 4 ~{RESET} (in), 5 CONT (io), 6 THRES (in), 7 DISCH (out), 8 VCC (power)

## PE42482A-X
designator IC?
Integrated Circuit; Manufacturer_Name: pSemi; Manufacturer_Part_Number: PE42482A-X; Datasheet Link: https://componentsearchengine.com/Datasheets/1/PE42482A-X.pdf; Height: 0.9mm
footprint QFN50P400X400X90-25N
pins: 1 LS, 2 RF2, 3 GND_1, 4 RF3, 5 GND_2, 6 RF4, 7 GND_3, 8 VDD, 9 V1, 10 V2, 11 V3, 12 V4, 13 RF5, 14 GND_4, 15 RF6, 16 GND_5, 17 RF7, 18 GND_6, 19 RF8, 20 NC, 21 GND_7, 22 RFC, 23 GND_8, 24 RF1, 25 GND_9

## RT-0R00-F-1/10W-0402
designator R?, comment 0R
RES SMD 0 OHM JUMPER 1/10W 0402; Alternate Manufacturer: Yageo; Alternate Manufacturer Part #: RC0402JR-070RL; Manufacturer: Panasonic Electronic Components; Manufacturer Part #: ERJ-2GE0R00X; SignalCraft Part #: RT-0R00-F-1/10W-0402; RS2D ID: R0R00F10010402; Checked By: *; ComponentLink1description: Datasheet; ComponentLink1URL: https://industrial.panasonic.com/ww/products/resistors/chip-resistors/general-purpose-chip-resistors/models/ERJ2GE0R00X; ComponentLink2description: Manufacturer Website; Alternate Distributor Part #: 311-0.0JRCT-ND; Created By: *; Distributor: Digikey; Distributor Part #: P0.0JCT-ND; History: *; Notes: *; Part Description: RES SMD 0 OHM JUMPER 1/10W 0402; Population: *; ROHS: Yes; ComponentLink2URL: https://industrial.panasonic.com/ww/products/resistors/chip-resistors/general-purpose-chip-resistors/models/ERJ2GE0R00X; Value: 0R
footprint 0402 (Chip Resistor, 2-Leads, Body 1,00x0,50mm, IPC Medium Density)
pins: 1, 2

## RT-0R00-F-1/10W-0603
designator R?, comment 0R
RES SMD 0 OHM JUMPER 1/10W 0603; Manufacturer: Yageo; Manufacturer Part #: RC0603JR-070RL; RS2D ID: R0R00F10010603; Checked By: *; Created By: *; Distributor: Digikey; Distributor Part #: 311-0.0GRCT-ND; History: *; Notes: *; Part Description: RES SMD 0 OHM JUMPER 1/10W 0603; Population: *; ROHS: Yes; SignalCraft Part #: *; Alternate Distributor Part #: *; Alternate Manufacturer: *; Alternate Manufacturer Part #: *; Value: 0R
footprint 0603
pins: 1, 2

## RT-1K0-F-1/10W-0603
designator R?, comment 1K
RES SMD 1K OHM 1% 1/10W 0603; Manufacturer: Yageo; Manufacturer Part #: RC0603FR-071KL; Checked By: *; Created By: *; Distributor: Digikey; Distributor Part #: 311-1.00KHRCT-ND; History: *; Notes: *; Part Description: RES SMD 1K OHM 1% 1/10W 0603; Population: *; ROHS: Yes; SignalCraft Part #: *; Alternate Distributor Part #: *; Alternate Manufacturer: *; Alternate Manufacturer Part #: *; Value: 1K
footprint 0603
pins: 1, 2

## RT-1k8-B-1/10W-0603
designator R?, comment 1.8K, 0.1%
RES SMD 1.8K OHM 0.1% 1/10W 0603; Manufacturer: Yageo; Manufacturer Part #: RT0603BRD071K8L; SignalCraft Part #: RT-1k8-B-1/10W-0603; Checked By: *; ComponentLink1Description: Datasheet; ComponentLink1URL: https://www.yageo.com/upload/media/product/productsearch/datasheet/rchip/PYu-RT_1-to-0.01_RoHS_L_12.pdf; ComponentLink2Description: Manufacture Website; ComponentLink2URL: https://www.yageo.com/en/Home; Created By: *; Distributor: Digikey; Distributor Part #: YAG1575CT-ND; History: *; Notes: *; Part Description: RES SMD 1.8K OHM 0.1% 1/10W 0603; Population: *; ROHS: Yes; Alternate Distributor Part #: *; Alternate Manufacturer: *; Alternate Manufacturer Part #: *; Value: 1.8K, 0.1%
footprint 0603
pins: 1, 2

## RT-1k54-B-1/10W-0603
designator R?, comment 1.54K, 0.1%
RES SMD 1.54K OHM 0.1% 1/10W 0603; Manufacturer: Yageo; Manufacturer Part #: RT0603BRE071K54L; Checked By: *; Created By: *; Distributor: Digikey; Distributor Part #: YAG4656CT-ND; History: *; Notes: *; Part Description: RES SMD 1.54KOHM 0.1% 1/10W 0603; Population: *; ROHS: Yes; SignalCraft Part #: *; Alternate Distributor Part #: *; Alternate Manufacturer: *; Alternate Manufacturer Part #: *; Value: 1.54K, 0.1%
footprint 0603
pins: 1, 2

## RT-1M00-F-1/10W-0603
designator R?, comment 1M
RES SMD 1M OHM 1% 1/10W 0603; Manufacturer: Yageo; Manufacturer Part #: RC0603FR-071ML; SignalCraft Part #: RT-1M00-F-1/10W-0603; Checked By: *; ComponentLink1Description: Datasheet; ComponentLink1URL: https://www.yageo.com/upload/media/product/productsearch/datasheet/rchip/PYu-RC_Group_51_RoHS_L_11.pdf; ComponentLink2Description: Manufacture Website; ComponentLink2URL: https://www.yageo.com/en/Home; Created By: *; Distributor: Digikey; Distributor Part #: 311-1.00MHRCT-ND; History: *; Notes: *; Part Description: RES SMD 1M OHM 1% 1/10W 0603; Population: *; ROHS: Yes; Alternate Distributor Part #: *; Alternate Manufacturer: *; Alternate Manufacturer Part #: *; Value: 1M
footprint 0603
pins: 1, 2

## RT-2k0-B-1/10W-0603
designator R?, comment 2K, 0.1%
RES SMD 2K OHM 0.1% 1/10W 0603; Manufacturer: Yageo; Manufacturer Part #: RT0603BRB072KL; SignalCraft Part #: RT-2k0-B-1/10W-0603; Checked By: *; ComponentLink1Description: Datasheet; ComponentLink1URL: YAG2183CT-ND; ComponentLink2Description: Manufacture Website; ComponentLink2URL: https://www.yageo.com/en/Home; Created By: *; Distributor: Digikey; Distributor Part #: YAG2183CT-ND; History: *; Notes: *; Part Description: RES SMD 2K OHM 0.1% 1/10W 0603; Population: *; ROHS: Yes; Alternate Distributor Part #: *; Alternate Manufacturer: *; Alternate Manufacturer Part #: *; Value: 2K, 0.1%
footprint 0603
pins: 1, 2

## RT-2K49-F-1/10W-0603
designator R?, comment value 2.49K  (hidden comment: 10K)
RES SMD 2.49K OHM 1% 1/10W 0603; Manufacturer: Yageo; Manufacturer Part #: RC0603FR-072K49L; SignalCraft Part #: RT-2K49-F-1/10W-0603; Checked By: *; ComponentLink1Description: Datasheet; ComponentLink1URL: https://www.yageo.com/upload/media/product/productsearch/datasheet/rchip/PYu-RC_Group_51_RoHS_L_11.pdf; ComponentLink2Description: Manufacture Website; ComponentLink2URL: https://www.yageo.com/en/Home; Created By: *; Distributor: Digikey; Distributor Part #: 311-2.49KHRCT-ND; History: *; Notes: *; Part Description: RES SMD 2.49K OHM 1% 1/10W 0603; Population: *; ROHS: Yes; Alternate Distributor Part #: *; Alternate Manufacturer: *; Alternate Manufacturer Part #: *
footprint 0603
pins: 1, 2

## RT-4K70-F-1/16W-0402
designator R?, comment 4.7k
RES SMD 4.7K OHM 1% 1/16W 0402; Manufacturer: Yageo; Manufacturer Part #: RC0402FR-074K7L; SignalCraft Part #: RT-4K70-F-1/16W-0402; Checked By: *; ComponentLink1Description: Datasheet; ComponentLink1URL: https://www.yageo.com/upload/media/product/productsearch/datasheet/rchip/PYu-RC_Group_51_RoHS_L_11.pdf; ComponentLink2Description: Manufacture Website; ComponentLink2URL: https://www.yageo.com/en/Home; Created By: *; Distributor: Digikey; Distributor Part #: 311-4.7KLRCT-ND; History: *; Notes: *; Part Description: RES SMD 4.7K OHM 1% 1/16W 0402; Population: *; ROHS: Yes; Alternate Distributor Part #: *; Alternate Manufacturer: *; Alternate Manufacturer Part #: *; Value: 4.7K
footprint 0402 (Chip Resistor, 2-Leads, Body 1,00x0,50mm, IPC Medium Density)
pins: 1, 2

## RT-5k1-B-1/10W-0603
designator R?, comment 5.1K, 0.1%
RES SMD 5.1KOHM 0.1% 1/10W 0603; Manufacturer: Yageo; Manufacturer Part #: RT0603BRD075K1L; Checked By: *; Created By: *; Distributor: Digikey; Distributor Part #: YAG1696CT-ND; History: *; Notes: *; Part Description: RES SMD 5.1K OHM 0.1% 1/10W 0603; Population: *; ROHS: Yes; SignalCraft Part #: *; Alternate Distributor Part #: *; Alternate Manufacturer: *; Alternate Manufacturer Part #: *; Value: 5.1K, 0.1%
footprint 0603
pins: 1, 2

## RT-5k1-F-1/10W-0603
designator R?, comment 5.1K
RES SMD 5.1K OHM 1% 1/10W 0603; Manufacturer: Yageo; Manufacturer Part #: RC0603FR-075K1L; Checked By: *; Created By: *; Distributor: Digikey; Distributor Part #: 311-5.10KHRCT-ND; History: *; Notes: *; Part Description: RES SMD 5.1K OHM 1% 1/10W 0603; Population: *; ROHS: *; SignalCraft Part #: *; Alternate Distributor Part #: *; Alternate Manufacturer: *; Alternate Manufacturer Part #: *; Value: 5.1K
footprint 0603
pins: 1, 2

## RT-8k66-B-1/10W-0603
designator R?, comment 8.66K, 0.1%
RES SMD 8.66KOHM 0.1% 1/10W 0603; Manufacturer: Yageo; Manufacturer Part #: RT0603BRD078K66L; SignalCraft Part #: RT-8k66-B-1/10W-0603; Checked By: *; ComponentLink1Description: Datasheet; ComponentLink1URL: https://www.yageo.com/upload/media/product/productsearch/datasheet/rchip/PYu-RT_1-to-0.01_RoHS_L_12.pdf; ComponentLink2Description: Manufacture Website; ComponentLink2URL: https://www.yageo.com/en/Home; Created By: *; Distributor: Digikey; Distributor Part #: YAG4603CT-ND; History: *; Notes: *; Part Description: RES SMD 8.66KOHM 0.1% 1/10W 0603; Population: *; ROHS: Yes; Alternate Distributor Part #: *; Alternate Manufacturer: *; Alternate Manufacturer Part #: *; Value: 8.66K, 0.1%
footprint 0603
pins: 1, 2

## RT-10k0-B-1/10W-0603
designator R?, comment 10K, 0.1%
RES SMD 10K OHM 0.1% 1/10W 0603; Manufacturer: Yageo; Manufacturer Part #: RT0603BRD0710KL; SignalCraft Part #: RT-10k0-B-1/10W-0603; Checked By: *; ComponentLink1Description: Datasheet; ComponentLink1URL: https://www.yageo.com/upload/media/product/productsearch/datasheet/rchip/PYu-RT_1-to-0.01_RoHS_L_12.pdf; ComponentLink2Description: Manufacture Website; ComponentLink2URL: https://www.yageo.com/en/Home; Created By: *; Distributor: Digikey; Distributor Part #: YAG1236CT-ND; History: *; Notes: *; Part Description: RES SMD 10K OHM 0.1% 1/10W 0603; Population: *; ROHS: Yes; Alternate Distributor Part #: *; Alternate Manufacturer: *; Alternate Manufacturer Part #: *; Value: 10K, 0.1%
footprint 0603
pins: 1, 2

## RT-10k0-F-1/10W-0603
designator R?, comment 10K
RES SMD 10K OHM 1% 1/10W 0603; Manufacturer: Yageo; Manufacturer Part #: RC0603FR-0710KL; SignalCraft Part #: RT-10K0-F-1/10W-0603; Checked By: *; ComponentLink1Description: Datasheet; ComponentLink1URL: https://www.yageo.com/upload/media/product/productsearch/datasheet/rchip/PYu-RC_Group_51_RoHS_L_11.pdf; ComponentLink2Description: Manufacture Website; ComponentLink2URL: https://www.yageo.com/en/Home; Created By: *; Distributor: Digikey; Distributor Part #: 311-10.0KHRCT-ND; History: *; Notes: *; Part Description: RES SMD 10K OHM 1% 1/10W 0603; Population: *; ROHS: Yes; Alternate Distributor Part #: *; Alternate Manufacturer: *; Alternate Manufacturer Part #: *; Value: 10K
footprint 0603
pins: 1, 2

## RT-10K0-F-1/16W-0402
designator R?, comment 10K
RES SMD 10K OHM 1% 1/16W 0402; Alternate Manufacturer: Yageo; Alternate Manufacturer Part #: RC0402FR-0710KL; Manufacturer: Vishay Dale; Manufacturer Part #: CRCW040210K0FKED; SignalCraft Part #: RT-10K0-F-1/16W-0402; Checked By: *; ComponentLink1description: Datasheet; ComponentLink1URL: https://www.vishay.com/docs/20035/dcrcwe3.pdf; ComponentLink2description: Manufacturer Website; Alternate Distributor Part #: 311-10.0KLRCT-ND; Created By: *; Distributor: Digikey; Distributor Part #: 541-10.0KLCT-ND; History: *; Notes: *; Part Description: RES SMD 10K OHM 1% 1/16W 0402; Population: *; ROHS: Yes; ComponentLink2URL: https://www.vishay.com/; Value: 10K
footprint 0402 (Chip Resistor, 2-Leads, Body 1,00x0,50mm, IPC Medium Density)
pins: 1, 2

## RT-11k5-B-1/10W-0603
designator R?, comment 11.5K, 0.1%
RES SMD 11.5KOHM 0.1% 1/10W 0603; Manufacturer: Yageo; Manufacturer Part #: RT0603BRE0711K5L; SignalCraft Part #: RT-11k5-B-1/10W-0603; Checked By: *; ComponentLink1Description: Datasheet; ComponentLink1URL: https://www.yageo.com/upload/media/product/productsearch/datasheet/rchip/PYu-RT_1-to-0.01_RoHS_L_12.pdf; ComponentLink2Description: Manufacture Website; ComponentLink2URL: https://www.yageo.com/en/Home; Created By: *; Distributor: Digikey; Distributor Part #: YAG4614CT-ND; History: *; Notes: *; Part Description: RES SMD 11.5KOHM 0.1% 1/10W 0603; Population: *; ROHS: Yes; Alternate Distributor Part #: *; Alternate Manufacturer: *; Alternate Manufacturer Part #: *; Value: 11.5K, 0.1%
footprint 0603
pins: 1, 2

## RT-18k2-F-1/10W-0603
designator R?, comment 18.2K
18.2 kOhms ±1% 0.1W, 1/10W Chip Resistor 0603 (1608 Metric) Moisture Resistant Thick Film; Manufacturer: Yageo; Manufacturer Part #: RC0603FR-0718K2L; Checked By: *; ComponentLink1Description: Datasheet; ComponentLink1URL: *; ComponentLink2Description: Manufacture Website; ComponentLink2URL: *; Created By: *; Distributor: Digikey; Distributor Part #: 311-18.2KHRCT-ND; History: *; Notes: *; Part Description: 18.2 kOhms ±1% 0.1W, 1/10W Chip Resistor 0603 (1608 Metric) Moisture Resistant Thick Film; Population: *; ROHS: Yes; SignalCraft Part #: *; Alternate Distributor Part #: *; Alternate Manufacturer: *; Alternate Manufacturer Part #: *; Value: 18.2K
footprint 0603
pins: 1, 2

## RT-22R0-F-1/16W-0402
designator R?, comment 22R
RES SMD 22 OHM 1% 1/16W 0402; Alternate Manufacturer: Yageo; Alternate Manufacturer Part #: RC0402FR-0722RL; Manufacturer: Vishay Dale; Manufacturer Part #: CRCW040222R0FKED; SignalCraft Part #: RT-22R0-F-1/16W-0402; Checked By: *; ComponentLink1description: Datasheet; ComponentLink1URL: https://www.vishay.com/docs/20035/dcrcwe3.pdf; ComponentLink2description: Manufacturer Website; Alternate Distributor Part #: 311-22.0LRCT-ND; Created By: *; Distributor: Digikey; Distributor Part #: 541-22.0LCT-ND; History: *; Notes: *; Part Description: RES SMD 22 OHM 1% 1/16W 0402; Population: *; ROHS: Yes; ComponentLink2URL: https://www.vishay.com/; Value: 22R
footprint 0402 (Chip Resistor, 2-Leads, Body 1,00x0,50mm, IPC Medium Density)
pins: 1, 2

## RT-26K7-F-1/10W-0603
designator R?, comment value 26.7K  (hidden comment: 10K)
RES SMD 26.7K OHM 1% 1/10W 0603; Manufacturer: Yageo; Manufacturer Part #: RC0603FR-0726K7L; SignalCraft Part #: RT-26K7-F-1/10W-0603; Checked By: *; ComponentLink1Description: Datasheet; ComponentLink1URL: https://www.yageo.com/upload/media/product/productsearch/datasheet/rchip/PYu-RC_Group_51_RoHS_L_11.pdf; ComponentLink2Description: Manufacture Website; ComponentLink2URL: https://www.yageo.com/en/Home; Created By: *; Distributor: Digikey; Distributor Part #: 311-26.7KHRCT-ND; History: *; Notes: *; Part Description: RES SMD 26.7K OHM 1% 1/10W 0603; Population: *; ROHS: Yes; Alternate Distributor Part #: *; Alternate Manufacturer: *; Alternate Manufacturer Part #: *
footprint 0603
pins: 1, 2

## RT-71R5-B-1/10W-0603
designator R?, comment value 71.5R, 0.1%  (hidden comment: 71.5, 0.1%)
RES SMD 71.5 OHM 0.1% 1/10W 0603; Manufacturer: Yageo; Manufacturer Part #: RT0603BRD0771R5L; Checked By: *; Created By: *; Distributor: Digikey; Distributor Part #: YAG1728CT-ND; History: *; Notes: *; Part Description: RES SMD 71.5 OHM 0.1% 1/10W 0603; Population: *; ROHS: Yes; Alternate Distributor Part #: *; Alternate Manufacturer: *; Alternate Manufacturer Part #: *
footprint 0603
pins: 1, 2

## RT-91k0-F-1/10W-0603
designator R?, comment 91K
RES SMD 91K OHM 1% 1/10W 0603; Manufacturer: Yageo; Manufacturer Part #: RC0603FR-0791KL; Checked By: *; Created By: *; Distributor: Digikey; Distributor Part #: 311-91.0KHRCT-ND; History: *; Notes: *; Part Description: RES SMD 91K OHM 1% 1/10W 0603; Population: *; ROHS: *; SignalCraft Part #: *; Alternate Distributor Part #: *; Alternate Manufacturer: *; Alternate Manufacturer Part #: *; Value: 91K
footprint 0603
pins: 1, 2

## RT-100k-F-1/10W-0603
designator R?, comment 100K
RES SMD 100 KOHM 1% 1/10W 0603; Manufacturer: Yageo; Manufacturer Part #: RC0603FR-07100KL; Part Description: 100 kOhms ±1% 0.1W, 1/10W Chip Resistor 0603 (1608 Metric) Moisture Resistant Thick Film; Checked By: *; ComponentLink1Description: Datasheet; ComponentLink1URL: https://www.yageo.com/upload/media/product/productsearch/datasheet/rchip/PYu-RC_Group_51_RoHS_L_11.pdf; ComponentLink2Description: Manufacture Website; ComponentLink2URL: https://www.yageo.com/en/Home; Created By: *; Distributor: Digikey; Distributor Part #: 311-100KHRCT-ND; History: *; Notes: *; Population: *; ROHS: Yes; SignalCraft Part #: *; Alternate Distributor Part #: *; Alternate Manufacturer: *; Alternate Manufacturer Part #: *; Value: 100K
footprint 0603
pins: 1, 2

## RT-100R-F-1/10W-0603
designator R?, comment 100R
100 Ohms ±1% 0.1W, 1/10W Chip Resistor 0603 (1608 Metric) Automotive AEC-Q200, Moisture Resistant Thick Film; Manufacturer: Yageo; Manufacturer Part #: AC0603FR-13100RL; Part Description: RES 100 OHM 1% 1/10W 0603; Checked By: *; ComponentLink1Description: Datasheet; ComponentLink1URL: https://www.yageo.com/upload/media/product/productsearch/datasheet/rchip/PYu-RC_Group_51_RoHS_L_11.pdf; ComponentLink2Description: Manufacture Website; ComponentLink2URL: https://www.yageo.com/en/Home; Created By: *; Distributor: Digikey; Distributor Part #: 13-AC0603FR-13100RLCT-ND; History: *; Notes: *; Population: *; ROHS: *; SignalCraft Part #: *; Alternate Distributor Part #: *; Alternate Manufacturer: *; Alternate Manufacturer Part #: *; Value: 100R
footprint 0603
pins: 1, 2

## RT-137R0-B-1/10W-0603
designator R?, comment 137R, 0.1%
RES SMD 137 OHM 0.1% 1/10W 0603; Checked By: *; Created By: *; Distributor: Digikey; Distributor Part #: *; History: *; Manufacturer: *; Manufacturer Part #: *; Notes: *; Part Description: *; Population: *; ROHS: Yes; SignalCraft Part #: *; Alternate Distributor Part #: *; Alternate Manufacturer: *; Alternate Manufacturer Part #: *; Value: 137R, 0.1%
footprint 0603
pins: 1, 2

## RT-180R-F-1/10W-0603
designator R?, comment value 180R  (hidden comment: 180K)
RES SMD 180 OHM 1% 1/10W 0603; Manufacturer: Yageo; Manufacturer Part #: AC0603FR-07180RL; Checked By: *; Created By: *; Distributor: Digikey; Distributor Part #: YAG5321CT-ND; History: *; Notes: *; Part Description: RES SMD 180 OHM 1% 1/10W 0603; Population: *; ROHS: Yes; SignalCraft Part #: *; Alternate Distributor Part #: *; Alternate Manufacturer: *; Alternate Manufacturer Part #: *
footprint 0603
pins: 1, 2

## RT-220R-F-1/10W-0603
designator R?, comment value 220R  (hidden comment: 10K)
RES SMD 220 OHM 1% 1/10W 0603; Manufacturer: Yageo; Manufacturer Part #: RC0603FR-07220RL; SignalCraft Part #: RT-220R-F-1/10W-0603; Checked By: *; ComponentLink1Description: Datasheet; ComponentLink1URL: https://www.yageo.com/upload/media/product/productsearch/datasheet/rchip/PYu-RC_Group_51_RoHS_L_11.pdf; ComponentLink2Description: Manufacture Website; ComponentLink2URL: https://www.yageo.com/en/Home; Created By: *; Distributor: Digikey; Distributor Part #: 311-220HRCT-ND; History: *; Notes: *; Part Description: RES SMD 220 OHM 1% 1/10W 0603; Population: *; ROHS: Yes; Alternate Distributor Part #: *; Alternate Manufacturer: *; Alternate Manufacturer Part #: *
footprint 0603
pins: 1, 2

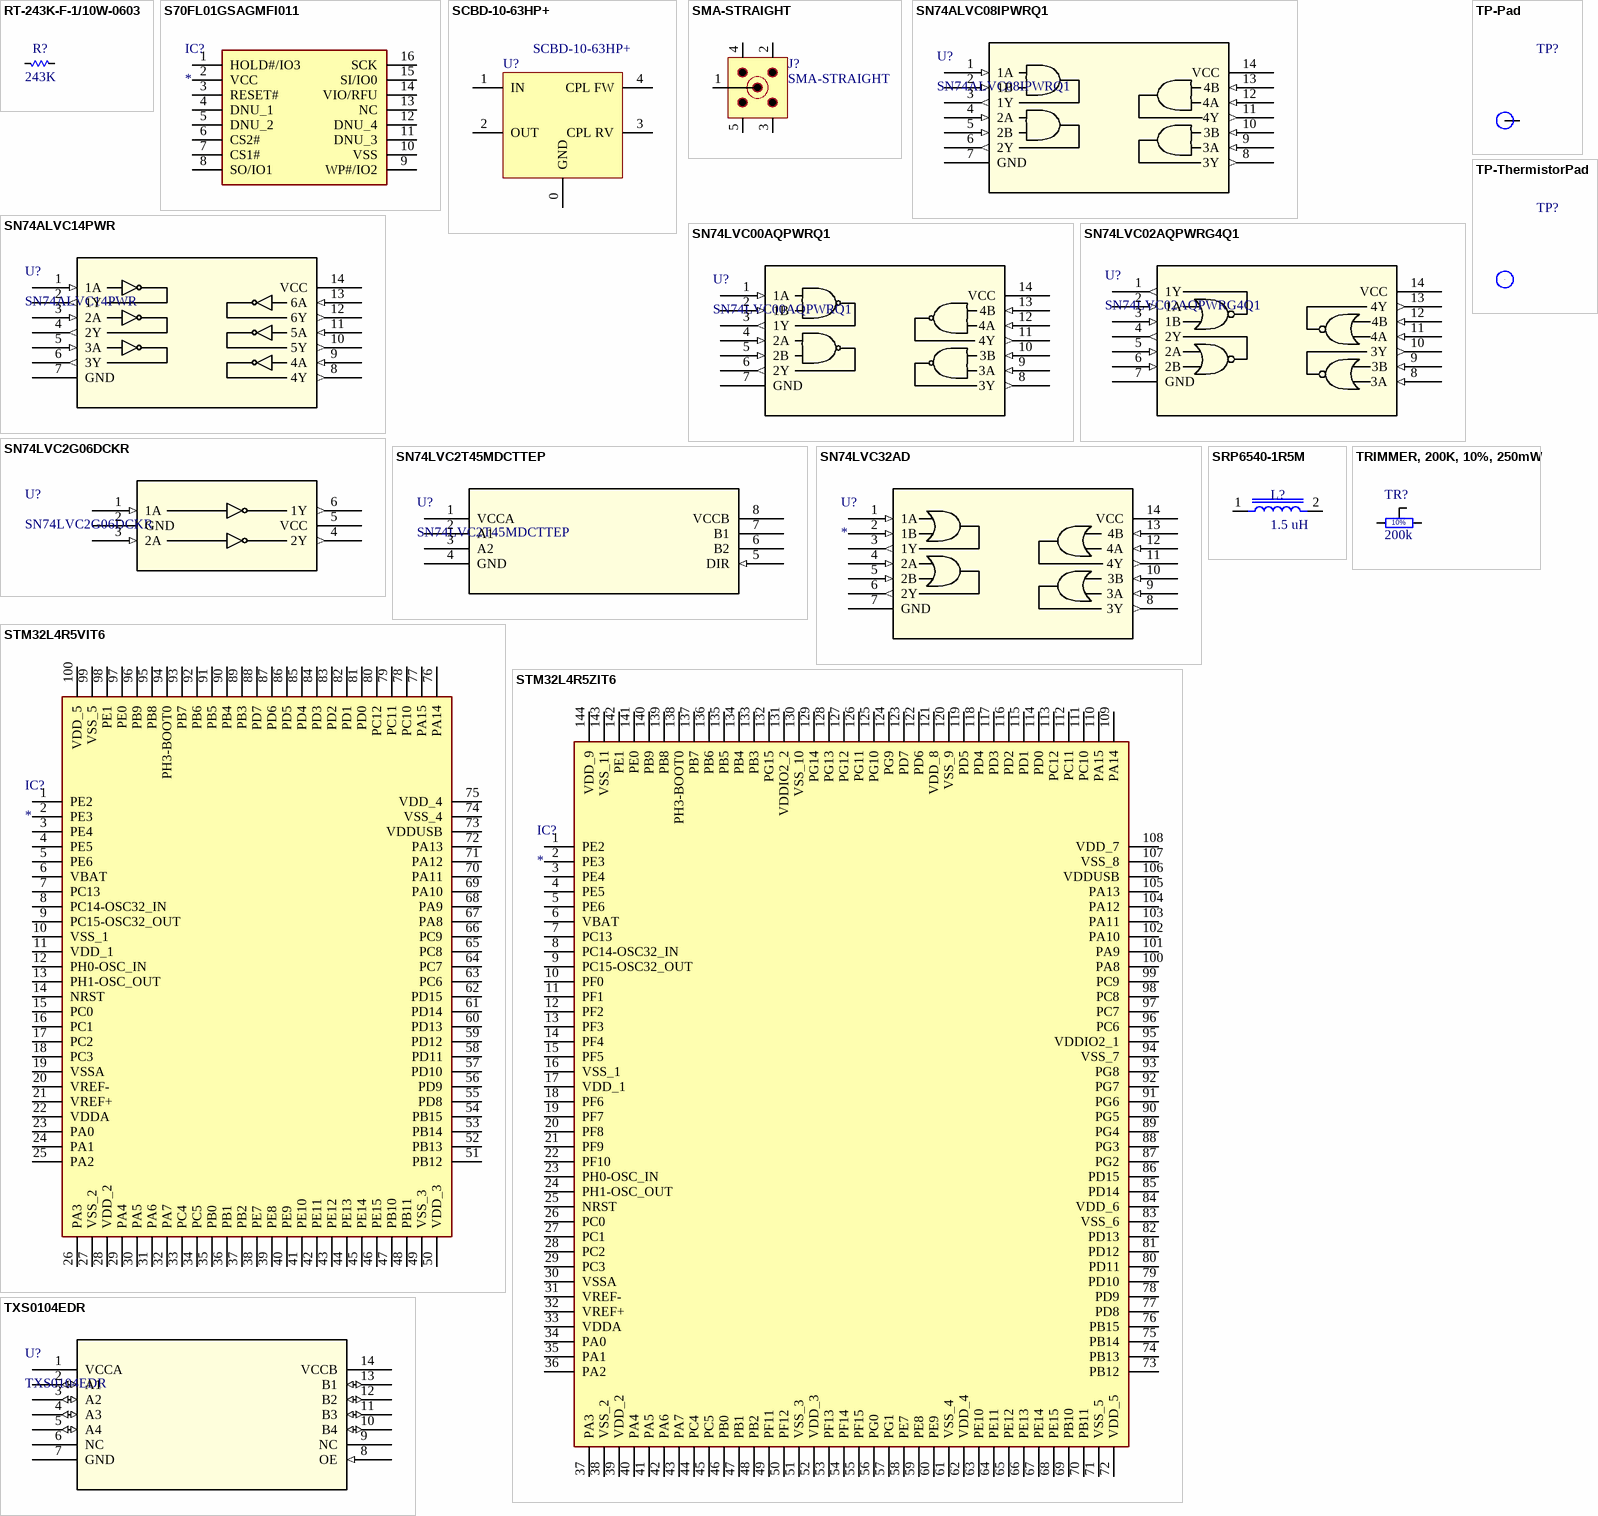
[diagram p2: symbols RT-243K-F-1/10W-0603 to TXS0104EDR]

## RT-243K-F-1/10W-0603
designator R?, comment 243K
RES SMD 243k OHM 1% 1/10W 0603; Manufacturer: Yageo; Manufacturer Part #: RC0603FR-07243KL; Checked By: *; ComponentLink1Description: Datasheet; ComponentLink1URL: https://www.yageo.com/upload/media/product/productsearch/datasheet/rchip/PYu-RC_Group_51_RoHS_L_11.pdf; ComponentLink2Description: Manufacture Website; ComponentLink2URL: https://www.yageo.com/en/Home; Created By: *; Distributor: Digikey; Distributor Part #: 311-243KHRCT-ND; History: *; Notes: *; Part Description: RES SMD 243K OHM 1% 1/10W 0603; Population: *; ROHS: Yes; Alternate Distributor Part #: *; Alternate Manufacturer: *; Alternate Manufacturer Part #: *; Value: 243K
footprint 0603
pins: 1, 2